# Altium footprint library testpad.PCBLIB: 42 footprints (part 1 of 3)
Each footprint in its own frame and in the unit in brackets; x right, y up, seen from the top. Pads: shape width x height; smd on the part's side, far side on the other; paste and mask are expansions set on the pad; w line width, h text height; cw(c..) or ccw(c..) is an arc to the next point about the centre after c.
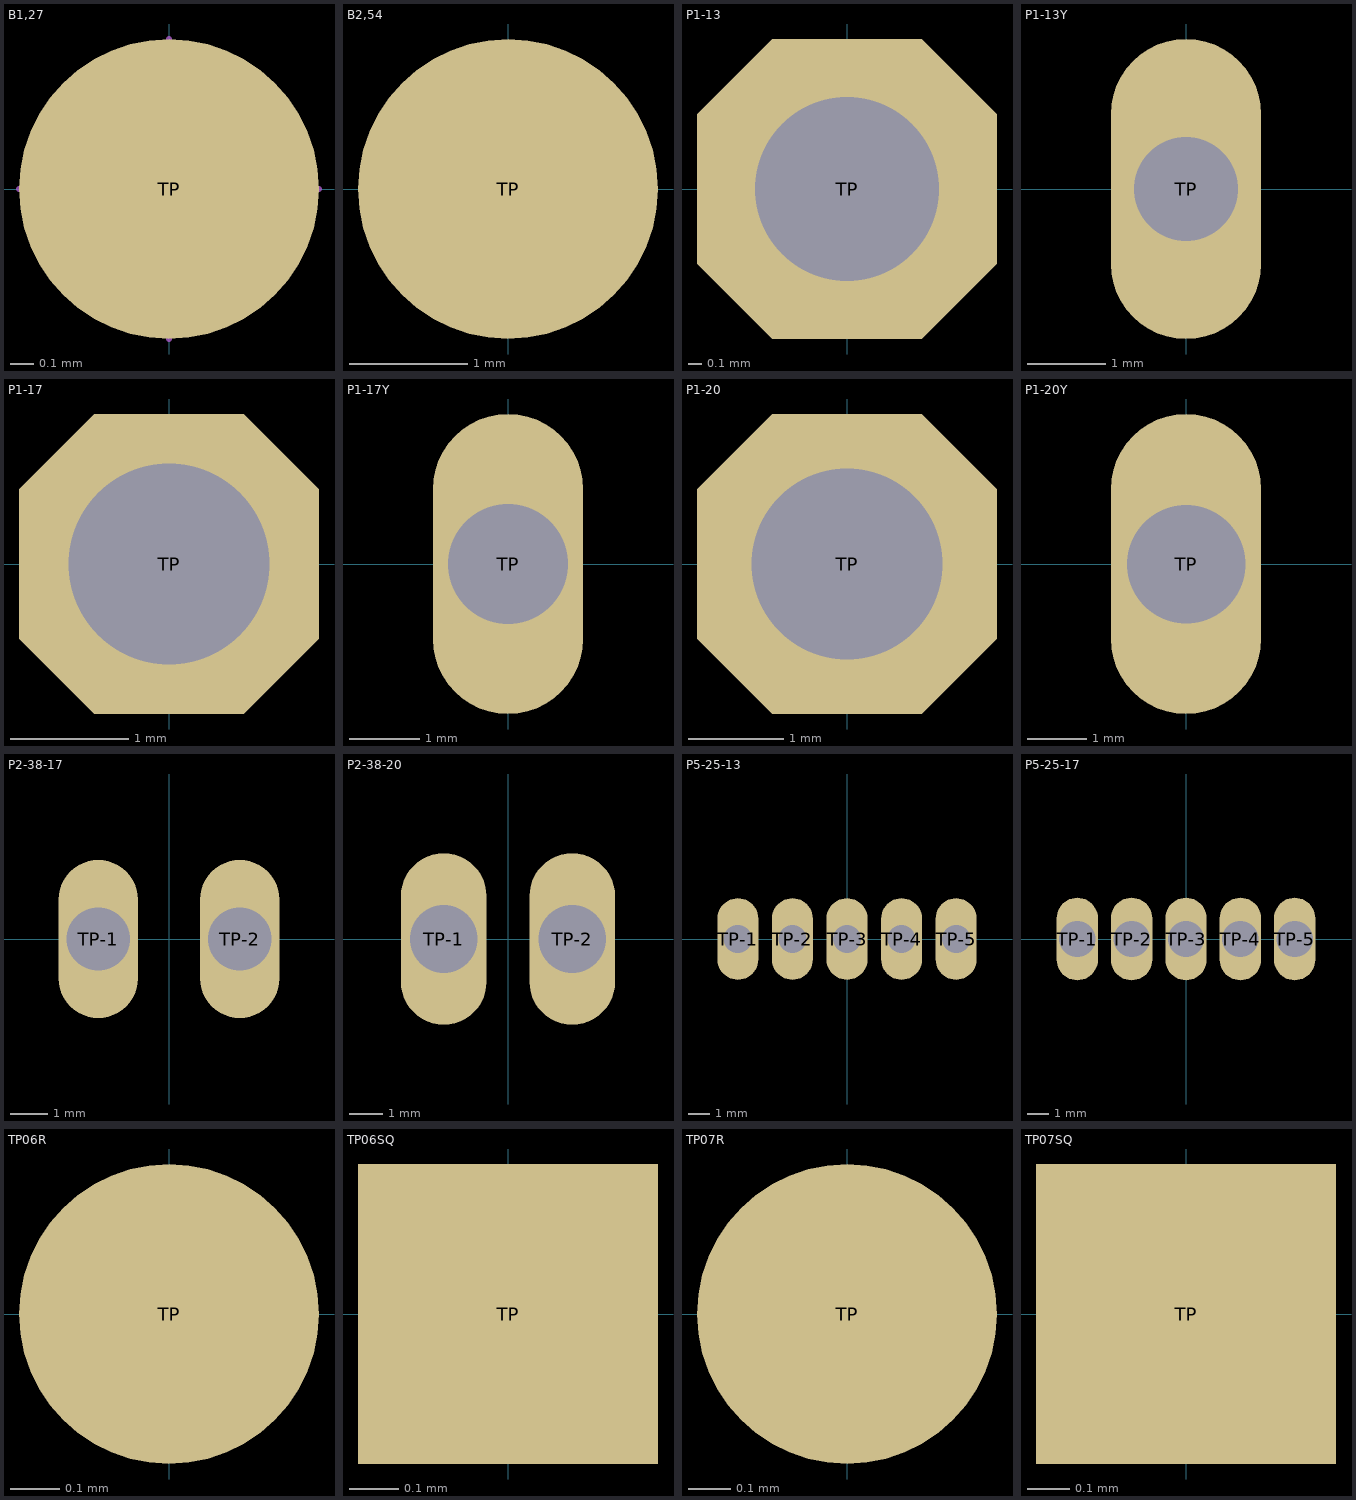
[diagram p0: the footprints below, top view; thin cyan lines are the x and y axes]

## B1,27 [mil]
pads (1):
  rrect100% 50x50 smd: TP(0,0)
Mechanical 25:
  lines w1: -25,0 25,0 ; 0,-25 0,25
  text ">TP_SIGNAL_NAME" at -25,-75 h62

## B2,54 [mil]
pads (1):
  rrect100% 100x100 smd: TP(0,0)
Mechanical 25:
  circle w10: c0,0 r25
  lines w1: -25,0 25,0 ; 0,-25 0,25
  text ">TP_SIGNAL_NAME" at -50,-125 h62

## P1-13 [mil]
pads (1):
  oct 85x85 hole 52: TP(0,0)
Mechanical 16:
  circle w6: c0,0 r30
  rectangle: -13,-13 13,13
Mechanical 25:
  text ">TP_SIGNAL_NAME" at -50,-100 h62

## P1-13Y [mil]
pads (1):
  oval 75x150 hole 52: TP(0,0)
Mechanical 16:
  circle w6: c0,0 r30
  rectangle: -13,-13 13,13
Mechanical 25:
  text ">TP_SIGNAL_NAME" at -50,-150 h62

## P1-17 [mil]
pads (1):
  oct 100x100 hole 67: TP(0,0)
Mechanical 16:
  circle w6: c0,0 r32
  rectangle: -13,-13 13,13
Mechanical 25:
  text ">TP_SIGNAL_NAME" at -50,-125 h62

## P1-17Y [mil]
pads (1):
  oval 84x168 hole 67: TP(0,0)
Mechanical 16:
  circle w6: c0,0 r32
  rectangle: -13,-13 13,13
Mechanical 25:
  text ">TP_SIGNAL_NAME" at -50,-150 h62

## P1-20 [mil]
pads (1):
  oct 124x124 hole 79: TP(0,0)
Mechanical 16:
  circle w6: c0,0 r40
  rectangle: -13,-13 13,13
Mechanical 25:
  text ">TP_SIGNAL_NAME" at -50,-125 h62

## P1-20Y [mil]
pads (1):
  oval 100x200 hole 79: TP(0,0)
Mechanical 16:
  circle w6: c0,0 r40
  rectangle: -13,-13 13,13
Mechanical 25:
  text ">TP_SIGNAL_NAME" at -50,-175 h62

## P2-38-17 [mil]
pads (2):
  oval 84x168 hole 67: TP-1(-75,0) TP-2(75,0)
Mechanical 16:
  circle w6: c-75,0 r32
  circle w6: c75,0 r32
  rectangle: -88,-13 -62,13
  rectangle: 62,-13 88,13
Mechanical 25:
  text ">TP_SIGNAL_NAME" at -100,-225 h62

## P2-38-20 [mil]
pads (2):
  oval 100x200 hole 79: TP-1(-75,0) TP-2(75,0)
Mechanical 16:
  circle w6: c-75,0 r40
  circle w6: c75,0 r40
  rectangle: -88,-13 -62,13
  rectangle: 62,-13 88,13
Mechanical 25:
  text ">TP_SIGNAL_NAME" at -100,-250 h62

## P5-25-13 [mil]
pads (5):
  oval 75x150 hole 52: TP-1(-200,0) TP-2(-100,0) TP-3(0,0) TP-4(100,0) TP-5(200,0)
Mechanical 16:
  circle w6: c0,0 r30
  circle w6: c100,0 r30
  circle w6: c200,0 r30
  circle w6: c-100,0 r30
  circle w6: c-200,0 r30
  rectangle: -13,-13 13,13
  rectangle: 87,-13 113,13
  rectangle: 187,-13 213,13
  rectangle: -113,-13 -87,13
  rectangle: -213,-13 -187,13
Mechanical 25:
  text ">TP_SIGNAL_NAME" at -225,-150 h62

## P5-25-17 [mil]
pads (5):
  oval 76x152 hole 67: TP-1(-200,0) TP-2(-100,0) TP-3(0,0) TP-4(100,0) TP-5(200,0)
Mechanical 16:
  circle w6: c0,0 r32
  circle w6: c-200,0 r32
  circle w6: c-100,0 r32
  circle w6: c100,0 r32
  circle w6: c200,0 r32
  rectangle: -13,-13 13,13
  rectangle: -213,-13 -187,13
  rectangle: -113,-13 -87,13
  rectangle: 87,-13 113,13
  rectangle: 187,-13 213,13
Mechanical 25:
  text ">TP_SIGNAL_NAME" at -225,-150 h62

## TP06R [mil]
pads (1):
  rrect100% 24x24 smd: TP(0,0)
Mechanical 25:
  text ">TP_SIGNAL_NAME" at 0,-75 h62

## TP06SQ [mil]
pads (1):
  rect 24x24 smd: TP(0,0)
Mechanical 25:
  text ">TP_SIGNAL_NAME" at 0,-75 h62

## TP07R [mil]
pads (1):
  rrect100% 28x28 smd: TP(0,0)
Mechanical 25:
  text ">TP_SIGNAL_NAME" at 0,-75 h62

## TP07SQ [mil]
pads (1):
  rect 28x28 smd: TP(0,0)
Mechanical 25:
  text ">TP_SIGNAL_NAME" at 0,-75 h62